# Altium schematic symbol library STM32F407ZGT6(Mini)核心板 - 对外接口原理图库.SCHLIB: 1 symbol
Pins are listed as number, name and electrical type; pins without a type are passive.

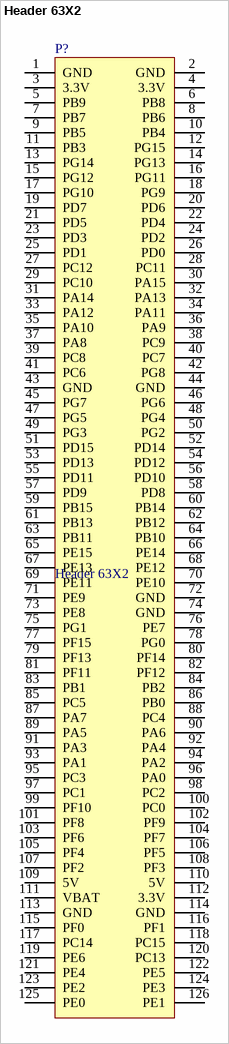
[diagram p0: symbol Header 63X2]

## Header 63X2
designator P?
Header, 126-Pin, Dual row; LatestRevisionDate: 17-Jul-2002; LatestRevisionNote: Re-released for DXP Platform.; Publisher: Altium Limited
footprint HDR2X63 (Footprint not found)
pins: 1 GND, 2 GND, 3 3.3V, 4 3.3V, 5 PB9, 6 PB8, 7 PB7, 8 PB6, 9 PB5, 10 PB4, 11 PB3, 12 PG15, 13 PG14, 14 PG13, 15 PG12, 16 PG11, 17 PG10, 18 PG9, 19 PD7, 20 PD6, 21 PD5, 22 PD4, 23 PD3, 24 PD2, 25 PD1, 26 PD0, 27 PC12, 28 PC11, 29 PC10, 30 PA15, 31 PA14, 32 PA13, 33 PA12, 34 PA11, 35 PA10, 36 PA9, 37 PA8, 38 PC9, 39 PC8, 40 PC7, 41 PC6, 42 PG8, 43 GND, 44 GND, 45 PG7, 46 PG6, 47 PG5, 48 PG4, 49 PG3, 50 PG2, 51 PD15, 52 PD14, 53 PD13, 54 PD12, 55 PD11, 56 PD10, 57 PD9, 58 PD8, 59 PB15, 60 PB14, 61 PB13, 62 PB12, 63 PB11, 64 PB10, 65 PE15, 66 PE14, 67 PE13, 68 PE12, 69 PE11, 70 PE10, 71 PE9, 72 GND, 73 PE8, 74 GND, 75 PG1, 76 PE7, 77 PF15, 78 PG0, 79 PF13, 80 PF14, 81 PF11, 82 PF12, 83 PB1, 84 PB2, 85 PC5, 86 PB0, 87 PA7, 88 PC4, 89 PA5, 90 PA6, 91 PA3, 92 PA4, 93 PA1, 94 PA2, 95 PC3, 96 PA0, 97 PC1, 98 PC2, 99 PF10, 100 PC0, 101 PF8, 102 PF9, 103 PF6, 104 PF7, 105 PF4, 106 PF5, 107 PF2, 108 PF3, 109 5V, 110 5V, 111 VBAT, 112 3.3V, 113 GND, 114 GND, 115 PF0, 116 PF1, 117 PC14, 118 PC15, 119 PE6, 120 PC13, 121 PE4, 122 PE5, 123 PE2, 124 PE3, 125 PE0, 126 PE1